# EAGLE library part 5749069-5 (library con-amp-te)
TE CONNECTIVITY / AMP - BUCHSE, SCSI, VERTIKAL, 50 Source: Data sheet <http://www.tycoelectronics.com/commerce/DocumentDelivery/DDEController?Action=srchrtrv&DocNm=5749069&DocType=Customer+Drawing&DocLang=English>
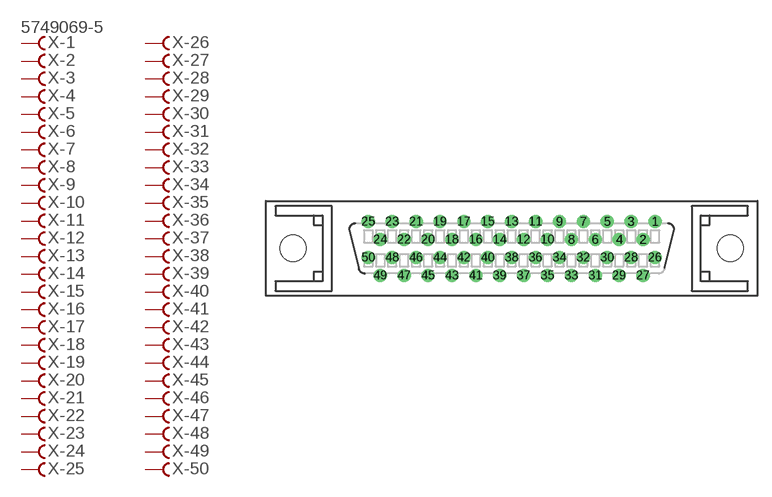
[diagram p5: symbol with the pads of 5749069-5; footprint 5749069-5]

Designator prefix X; gates -1=FV -2=F -3=F -4=F -5=F -6=F -7=F -8=F -9=F -10=F -11=F -12=F -13=F -14=F -15=F -16=F -17=F -18=F -19=F -20=F -21=F -22=F -23=F -24=F -25=F -26=F -27=F -28=F -29=F -30=F -31=F -32=F -33=F -34=F -35=F -36=F -37=F -38=F -39=F -40=F -41=F -42=F -43=F -44=F -45=F -46=F -47=F -48=F -49=F -50=F

## 5749069-5  [5749069-5]
1  -1:F  pas
2  -2:F  pas
3  -3:F  pas
4  -4:F  pas
5  -5:F  pas
6  -6:F  pas
7  -7:F  pas
8  -8:F  pas
9  -9:F  pas
10  -10:F  pas
11  -11:F  pas
12  -12:F  pas
13  -13:F  pas
14  -14:F  pas
15  -15:F  pas
16  -16:F  pas
17  -17:F  pas
18  -18:F  pas
19  -19:F  pas
20  -20:F  pas
21  -21:F  pas
22  -22:F  pas
23  -23:F  pas
24  -24:F  pas
25  -25:F  pas
26  -26:F  pas
27  -27:F  pas
28  -28:F  pas
29  -29:F  pas
30  -30:F  pas
31  -31:F  pas
32  -32:F  pas
33  -33:F  pas
34  -34:F  pas
35  -35:F  pas
36  -36:F  pas
37  -37:F  pas
38  -38:F  pas
39  -39:F  pas
40  -40:F  pas
41  -41:F  pas
42  -42:F  pas
43  -43:F  pas
44  -44:F  pas
45  -45:F  pas
46  -46:F  pas
47  -47:F  pas
48  -48:F  pas
49  -49:F  pas
50  -50:F  pas

## Footprint 5749069-5 (pad centres in mm)
TE CONNECTIVITY / AMP - BUCHSE, SCSI, VERTIKAL, 50 Source: Data sheet <http://www.tycoelectronics.com/commerce/DocumentDelivery/DDEController?Action=srchrtrv&DocNm=5749069&DocType=Customer+Drawing&DocLang=English>
drill 0.9 pad 1.27: 1 15.24,2.863; 2 13.97,0.953; 3 12.7,2.863; 4 11.43,0.953; 5 10.16,2.863; 6 8.89,0.953; 7 7.62,2.863; 8 6.35,0.953; 9 5.08,2.863; 10 3.81,0.953; 11 2.54,2.863; 12 1.27,0.953; 13 0,2.863; 14 -1.27,0.953; 15 -2.54,2.863; 16 -3.81,0.953; 17 -5.08,2.863; 18 -6.35,0.953; 19 -7.62,2.863; 20 -8.89,0.953; 21 -10.16,2.863; 22 -11.43,0.953; 23 -12.7,2.863; 24 -13.97,0.953; 25 -15.24,2.863; 26 15.24,-0.957; 27 13.97,-2.867; 28 12.7,-0.957; 29 11.43,-2.867; 30 10.16,-0.957; 31 8.89,-2.867; 32 7.62,-0.957; 33 6.35,-2.867; 34 5.08,-0.957; 35 3.81,-2.867; 36 2.54,-0.957; 37 1.27,-2.867; 38 0,-0.957; 39 -1.27,-2.867; 40 -2.54,-0.957; 41 -3.81,-2.867; 42 -5.08,-0.957; 43 -6.35,-2.867; 44 -7.62,-0.957; 45 -8.89,-2.867; 46 -10.16,-0.957; 47 -11.43,-2.867; 48 -12.7,-0.957; 49 -13.97,-2.867; 50 -15.24,-0.957
hole 2.8 at -23.24,0
hole 2.8 at 23.24,0